# Altium footprint library TSSOP.PcbLib: 6 footprints
Each footprint in its own frame and in the unit in brackets; x right, y up, seen from the top. Pads: shape width x height; smd on the part's side, far side on the other; paste and mask are expansions set on the pad; w line width, h text height; cw(c..) or ccw(c..) is an arc to the next point about the centre after c.
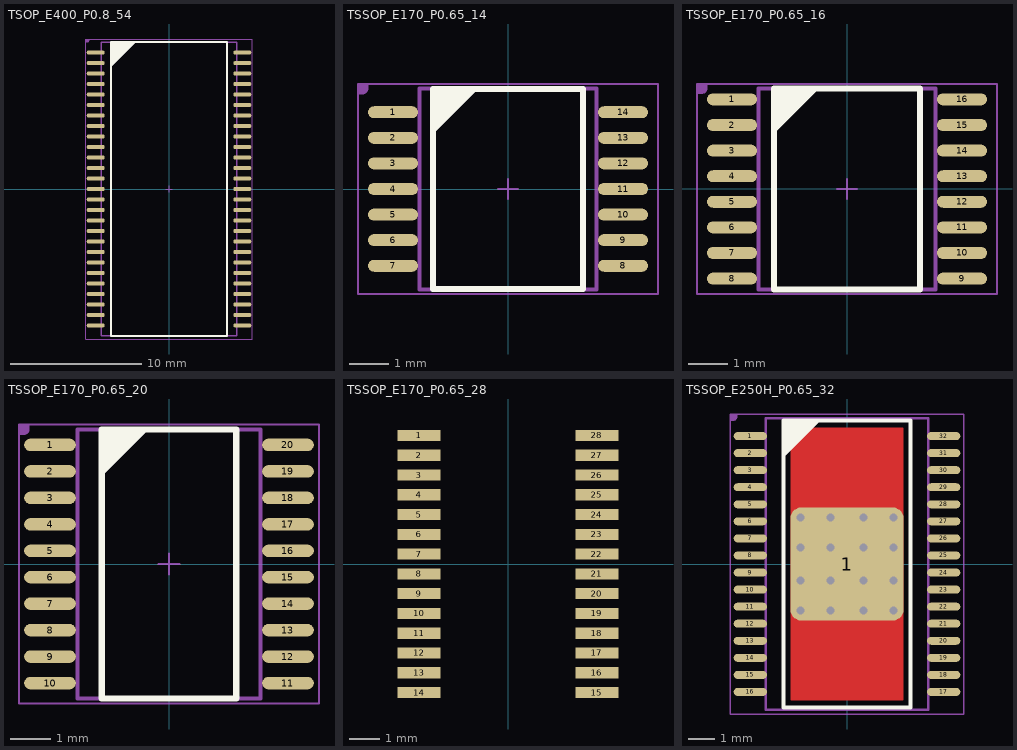
[diagram p0: the footprints below, top view; thin cyan lines are the x and y axes]

## TSOP_E400_P0.8_54 [mil]
height 47.24
pads (54):
  oval 54x12 smd: 1(-220,409.45) 2(-220,377.95) 3(-220,346.46) 4(-220,314.96) 5(-220,283.46) 6(-220,251.97) 7(-220,220.47) 8(-220,188.98) 9(-220,157.48) 10(-220,125.98) 11(-220,94.49) 12(-220,62.99) 13(-220,31.5) 14(-220,0) 15(-220,-31.5) 16(-220,-62.99) 17(-220,-94.49) 18(-220,-125.98) 19(-220,-157.48) 20(-220,-188.98) 21(-220,-220.47) 22(-220,-251.97) 23(-220,-283.47) 24(-220,-314.96) 25(-220,-346.46) 26(-220,-377.95) 27(-220,-409.45) 28(220,-409.45) 29(220,-377.95) 30(220,-346.46) 31(220,-314.96) 32(220,-283.47) 33(220,-251.97) 34(220,-220.47) 35(220,-188.98) 36(220,-157.48) 37(220,-125.98) 38(220,-94.49) 39(220,-62.99) 40(220,-31.5) 41(220,0) 42(220,31.5) 43(220,62.99) 44(220,94.49) 45(220,125.98) 46(220,157.48) 47(220,188.98) 48(220,220.47) 49(220,251.97) 50(220,283.46) 51(220,314.96) 52(220,346.46) 53(220,377.95) 54(220,409.45)
Top Overlay:
  region: -174.21,440.94 -99.06,440.94 -174.21,365.79
  lines w6: -174.21,-440.94 -174.21,440.94 174.21,440.94 174.21,-440.94 -174.21,-440.94
Mechanical 13:
  lines w2: -10,0 10,0 ; 0,-10 0,10
  lines w4: -202.76,-440.94 -202.76,440.94 202.76,440.94 202.76,-440.94 -202.76,-440.94
Mechanical 14:
  region: -250,450 -240,450 -240,445 -240,444.01 -240.76,442.17 -242.17,440.76 -244.01,440 -245,440 -250,440
  lines w2: -250,-450 250,-450 250,450 -250,450 -250,-450
  text ".Designator" at -41,-25 h100
3D body "SW3dPS-TSOP2-54.STEP": height 51, standoff -15.9, extent -231.5,-437.8 231.5,437

## TSSOP_E170_P0.65_14 [mil]
height 47.24
pads (14):
  oval 50x12 smd: 1(-115,76.77) 2(-115,51.18) 3(-115,25.59) 4(-115,0) 5(-115,-25.59) 6(-115,-51.18) 7(-115,-76.77) 8(115,-76.77) 9(115,-51.18) 10(115,-25.59) 11(115,0) 12(115,25.59) 13(115,51.18) 14(115,76.77)
Top Overlay:
  region: -75,100.47 -30,100.47 -75,55.47
  lines w6: -75,-100 75,-100 75,100 -75,100 -75,-100
Mechanical 13:
  lines w2: -10,0 10,0 ; 0,-10 0,10
  lines w3.94: -88.58,-100.39 88.58,-100.39 88.58,100.39 -88.58,100.39 -88.58,-100.39
Mechanical 14:
  region: -150,105 -140,105 -140,100 -140,99.01 -140.76,97.17 -142.17,95.76 -144.01,95 -145,95 -150,95
  lines w2: -150,-105 -150,105 150,105 150,-105 -150,-105
  text ".Designator" at -41,-25 h100
3D body "User Library-tssop14-2.STEP": height 47.24, standoff 0, extent -125.98,-100.39 125.99,100.4

## TSSOP_E170_P0.65_16 [mil]
height 47.24
pads (16):
  oval 50x12 smd: 1(-115,89.57) 2(-115,63.98) 3(-115,38.39) 4(-115,12.8) 5(-115,-12.8) 6(-115,-38.39) 7(-115,-63.98) 8(-115,-89.57) 9(115,-89.57) 10(115,-63.98) 11(115,-38.39) 12(115,-12.8) 13(115,12.8) 14(115,38.39) 15(115,63.98) 16(115,89.57)
Top Overlay:
  region: -72.83,100.87 -27.83,100.87 -72.83,55.87
  lines w6: -72.83,-100.39 -72.83,100.39 72.83,100.39 72.83,-100.39 -72.83,-100.39
Mechanical 13:
  lines w2: -10,0 10,0 ; 0,-10 0,10
  lines w3.94: -88.58,-100.39 -88.58,100.39 88.58,100.39 88.58,-100.39 -88.58,-100.39
Mechanical 14:
  region: -150,105 -140,105 -140,100 -140,99.01 -140.76,97.17 -142.17,95.76 -144.01,95 -145,95 -150,95
  lines w2: -150,-105 -150,105 150,105 150,-105 -150,-105
  text ".Designator" at -41,-25 h100
3D body "User Library-tssop16-2.STEP": height 47.24, standoff 0, extent -125.98,-100.39 125.99,100.4

## TSSOP_E170_P0.65_20 [mil]
height 47.24
pads (20):
  oval 50x12 smd: 1(-115,115.16) 2(-115,89.57) 3(-115,63.98) 4(-115,38.39) 5(-115,12.8) 6(-115,-12.8) 7(-115,-38.39) 8(-115,-63.98) 9(-115,-89.57) 10(-115,-115.16) 11(115,-115.16) 12(115,-89.57) 13(115,-63.98) 14(115,-38.39) 15(115,-12.8) 16(115,12.8) 17(115,38.39) 18(115,63.98) 19(115,89.57) 20(115,115.16)
Top Overlay:
  region: -65,130 -20,130 -65,85
  lines w6: -65,-130 65,-130 65,130 -65,130 -65,-130
Mechanical 13:
  lines w2: -10,0 10,0 ; 0,-10 0,10
  lines w3.94: -88.58,-129.92 88.58,-129.92 88.58,129.92 -88.58,129.92 -88.58,-129.92
Mechanical 14:
  region: -145,135 -135,135 -135,130 -135,129.01 -135.76,127.17 -137.17,125.76 -139.01,125 -140,125 -145,125
  lines w2: -145,-135 -145,135 145,135 145,-135 -145,-135
  text ".Designator" at -41,-25 h100
3D body "User Library-TSSOP-20 6_6x4_4.STEP": height 41.69, standoff -1.62, extent -125.98,-129.91 125.99,129.93

## TSSOP_E170_P0.65_28 [mil]
height 47.24
pads (28):
  rect 55.56x14.36 smd paste+0 mask+0: 1(-115,166.34) 2(-115,140.75) 3(-115,115.16) 4(-115,89.57) 5(-115,63.98) 6(-115,38.39) 7(-115,12.8) 8(-115,-12.8) 9(-115,-38.39) 10(-115,-63.98) 11(-115,-89.57) 12(-115,-115.16) 13(-115,-140.75) 14(-115,-166.34) 15(115,-166.34) 16(115,-140.75) 17(115,-115.16) 18(115,-89.57) 19(115,-63.98) 20(115,-38.39) 21(115,-12.8) 22(115,12.8) 23(115,38.39) 24(115,63.98) 25(115,89.57) 26(115,115.16) 27(115,140.75) 28(115,166.34)
3D body "User Library-TSSOP-28_P065.STEP": height 38.58, standoff -0.35, extent -125.98,-190.94 125.99,190.95

## TSSOP_E250H_P0.65_32 [mil]
height 47.24
pads (33):
  oval 50x12 smd: 1(-145,191.93) 2(-145,166.34) 3(-145,140.75) 4(-145,115.16) 5(-145,89.57) 6(-145,63.98) 7(-145,38.39) 8(-145,12.8) 9(-145,-12.8) 10(-145,-38.39) 11(-145,-63.98) 12(-145,-89.57) 13(-145,-115.16) 14(-145,-140.75) 15(-145,-166.34) 16(-145,-191.93) 17(145,-191.93) 18(145,-166.34) 19(145,-140.75) 20(145,-115.16) 21(145,-89.57) 22(145,-63.98) 23(145,-38.39) 24(145,-12.8) 25(145,12.8) 26(145,38.39) 27(145,63.98) 28(145,89.57) 29(145,115.16) 30(145,140.75) 31(145,166.34) 32(145,191.93)
  rrect20% 170x170 smd: 1(0,0)
via -70,-70 diameter 24 hole 12
via 70,-70 diameter 24 hole 12
via -25,-70 diameter 24 hole 12
via 25,-70 diameter 24 hole 12
via 25,-25 diameter 24 hole 12
via -25,-25 diameter 24 hole 12
via 70,-25 diameter 24 hole 12
via -70,-25 diameter 24 hole 12
via 70,25 diameter 24 hole 12
via -70,25 diameter 24 hole 12
via 25,25 diameter 24 hole 12
via -25,25 diameter 24 hole 12
via -25,70 diameter 24 hole 12
via 25,70 diameter 24 hole 12
via -70,70 diameter 24 hole 12
via 70,70 diameter 24 hole 12
Top Layer:
  rectangle: -85,-205 85,205
Top Overlay:
  region: -95,215 -40,215 -95,160
  lines w6: -95,-215 95,-215 95,215 -95,215 -95,-215
Mechanical 13:
  lines w2: -10,0 10,0 ; 0,-10 0,10
  lines w3.94: -122.05,-218.5 122.05,-218.5 122.05,218.5 -122.05,218.5 -122.05,-218.5
Mechanical 14:
  region: -175,225 -165,225 -165,220 -165,219.01 -165.76,217.17 -167.17,215.76 -169.01,215 -170,215 -175,215
  lines w2: -175,-225 175,-225 175,225 -175,225 -175,-225
  text ".Designator" at -41,-25 h100
3D body "SW3dPS-SSOP30-P065.STEP": height 43.26, standoff -1.57, extent -157.48,-180.79 157.48,207